# Altium schematic symbol library LEDs.SchLib: 1 symbol
Pins are listed as number, name and electrical type; pins without a type are passive.

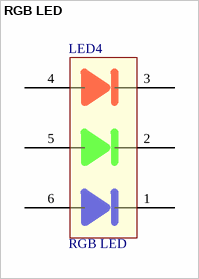
[diagram p0: symbol RGB LED]

## RGB LED
designator LED4
footprint CREELED
pins: 1 15, 2 15, 3, 4, 5, 6